# Altium integrated library Analog Devices RF IF Modulators and Demodulators.IntLib: 86 symbols (part 5 of 8)
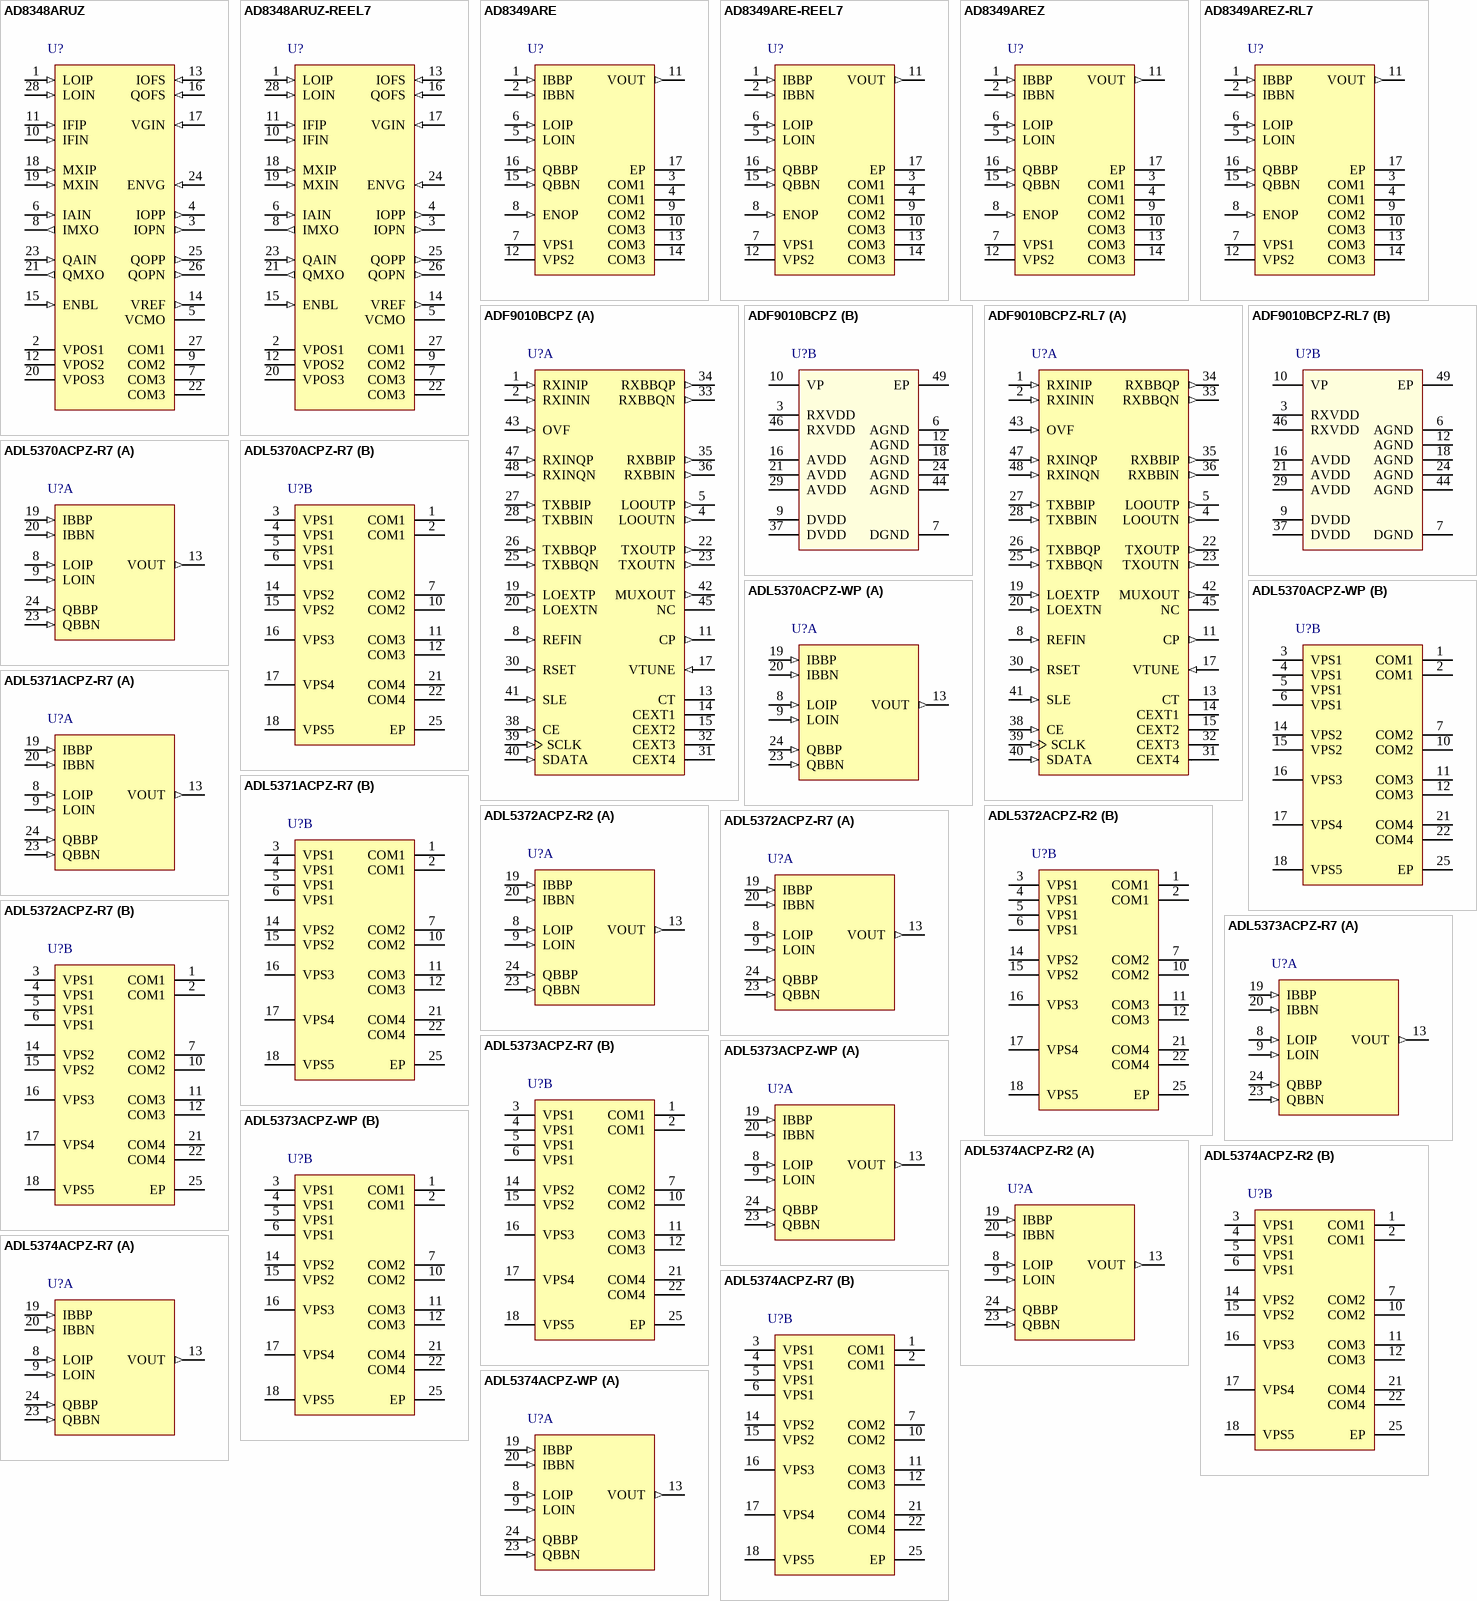
[diagram p9: symbols AD8348ARUZ to ADL5374ACPZ-WP]

## ADL5373ACPZ-R7
designator U?
2300 MHz to 3000 MHz Quadrature Modulator, CP-24-2, Pb-Free, 1500 Reel; Min RF Frequency (MHz): 2.3GHz; Max RF Frequency (MHz): 3GHz; IQ Freq (MHz): 500MHz; IIP3 (+dBm): 26dBm; Output P1dB (dBm): 13.8; DatasheetVersion: RevA; PackageVersion: Jan-2005; PackageReference: CP-24-2; PackageDescription: 24-Lead Lead Frame Chip Scale Package [LFCSP_VQ]; Code_JEDEC: MO-220-VGGD-2; ComponentLink1Description: Manufacturer URL; ComponentLink1URL: www.analog.com; ComponentLink2Description: Datasheet; ComponentLink2URL: http://www.analog.com/static/imported-files/data_sheets/ADL5373.pdf; ComponentLink3Description: Package Specification; ComponentLink3URL: http://www.analog.com/static/imported-files/packages/588305704543880784658541CP_24_2.pdf
footprint ADI-CP-24-2_N (QFN, 24-Leads, Body 4x4mm, Pitch 0.5mm, Thermal Pad 2.3x2.3mm, IPC Medium Density)
footprint ADI-CP-24-2_L (QFN, 24-Leads, Body 4x4mm, Pitch 0.5mm, Thermal Pad 2.3x2.3mm, IPC High Density)
footprint ADI-CP-24-2_M (QFN, 24-Leads, Body 4x4mm, Pitch 0.5mm, Thermal Pad 2.3x2.3mm, IPC Low Density)
part A pins: 8 LOIP (in) "50  ohm Differential Local Oscillator Input. Internally dc-biased. Pins must be ac-coupled. See Figure 8 for LO input impedance.", 9 LOIN (in) "50  ohm Differential Local Oscillator Input. Internally dc-biased. Pins must be ac-coupled. See Figure 8 for LO input impedance.", 13 VOUT (out) "Device Output. Single-ended RF output. Pin should be ac-coupled to the load. The output is ground referenced.", 19 IBBP (in) "Differential In-Phase and Quadrature Baseband Inputs. These high impedance inputs must be dc-biased to 500 mV dc and must be driven from a low impedance source.", 20 IBBN (in) "Differential In-Phase and Quadrature Baseband Inputs. These high impedance inputs must be dc-biased to 500 mV dc and must be driven from a low impedance source.", 23 QBBN (in) "Nominal characterized ac signal swing is 700 mV p-p on each pin. This results in a differential drive of 1.4 V p-p with a 500 mV dc bias. [see datasheet]", 24 QBBP (in) "Nominal characterized ac signal swing is 700 mV p-p on each pin. This results in a differential drive of 1.4 V p-p with a 500 mV dc bias. [see datasheet]"
part B pins: 1 COM1 (power) "Input Common Pins. Connect to ground plane via a low impedance path.", 2 COM1 (power) "Input Common Pins. Connect to ground plane via a low impedance path.", 3 VPS1 (power) "Positive Supply Voltage Pins. All pins should be connected to the same supply (VS). To ensure adequate external bypassing, connect 0.1 uF capacitors between each pin and ground. [see datasheet]", 4 VPS1 (power) "Positive Supply Voltage Pins. All pins should be connected to the same supply (VS). To ensure adequate external bypassing, connect 0.1 uF capacitors between each pin and ground. [see datasheet]", 5 VPS1 (power) "Positive Supply Voltage Pins. All pins should be connected to the same supply (VS). To ensure adequate external bypassing, connect 0.1 uF capacitors between each pin and ground. [see datasheet]", 6 VPS1 (power) "Positive Supply Voltage Pins. All pins should be connected to the same supply (VS). To ensure adequate external bypassing, connect 0.1 uF capacitors between each pin and ground. [see datasheet]", 7 COM2 (power) "Input Common Pins. Connect to ground plane via a low impedance path.", 10 COM2 (power) "Input Common Pins. Connect to ground plane via a low impedance path.", 11 COM3 (power) "Input Common Pins. Connect to ground plane via a low impedance path.", 12 COM3 (power) "Input Common Pins. Connect to ground plane via a low impedance path.", 14 VPS2 (power) "Positive Supply Voltage Pins. All pins should be connected to the same supply (VS). To ensure adequate external bypassing, connect 0.1 uF capacitors between each pin and ground. [see datasheet]", 15 VPS2 (power) "Positive Supply Voltage Pins. All pins should be connected to the same supply (VS). To ensure adequate external bypassing, connect 0.1 uF capacitors between each pin and ground. [see datasheet]", 16 VPS3 (power) "Positive Supply Voltage Pins. All pins should be connected to the same supply (VS). To ensure adequate external bypassing, connect 0.1 uF capacitors between each pin and ground. [see datasheet]", 17 VPS4 (power) "Positive Supply Voltage Pins. All pins should be connected to the same supply (VS). To ensure adequate external bypassing, connect 0.1 uF capacitors between each pin and ground. [see datasheet]", 18 VPS5 (power) "Positive Supply Voltage Pins. All pins should be connected to the same supply (VS). To ensure adequate external bypassing, connect 0.1 uF capacitors between each pin and ground. [see datasheet]", 21 COM4 (power) "Input Common Pins. Connect to ground plane via a low impedance path.", 22 COM4 (power) "Input Common Pins. Connect to ground plane via a low impedance path.", 25 EP (power) "Exposed Pad"

## ADL5373ACPZ-WP
designator U?
2300 MHz to 3000 MHz Quadrature Modulator, CP-24-2, Pb-Free, 64 Tray; Min RF Frequency (MHz): 2.3GHz; Max RF Frequency (MHz): 3GHz; IQ Freq (MHz): 500MHz; IIP3 (+dBm): 26dBm; Output P1dB (dBm): 13.8; DatasheetVersion: RevA; PackageVersion: Jan-2005; PackageReference: CP-24-2; PackageDescription: 24-Lead Lead Frame Chip Scale Package [LFCSP_VQ]; Code_JEDEC: MO-220-VGGD-2; ComponentLink1Description: Manufacturer URL; ComponentLink1URL: www.analog.com; ComponentLink2Description: Datasheet; ComponentLink2URL: http://www.analog.com/static/imported-files/data_sheets/ADL5373.pdf; ComponentLink3Description: Package Specification; ComponentLink3URL: http://www.analog.com/static/imported-files/packages/588305704543880784658541CP_24_2.pdf
footprint ADI-CP-24-2_N (QFN, 24-Leads, Body 4x4mm, Pitch 0.5mm, Thermal Pad 2.3x2.3mm, IPC Medium Density)
footprint ADI-CP-24-2_L (QFN, 24-Leads, Body 4x4mm, Pitch 0.5mm, Thermal Pad 2.3x2.3mm, IPC High Density)
footprint ADI-CP-24-2_M (QFN, 24-Leads, Body 4x4mm, Pitch 0.5mm, Thermal Pad 2.3x2.3mm, IPC Low Density)
part A pins: 8 LOIP (in) "50  ohm Differential Local Oscillator Input. Internally dc-biased. Pins must be ac-coupled. See Figure 8 for LO input impedance.", 9 LOIN (in) "50  ohm Differential Local Oscillator Input. Internally dc-biased. Pins must be ac-coupled. See Figure 8 for LO input impedance.", 13 VOUT (out) "Device Output. Single-ended RF output. Pin should be ac-coupled to the load. The output is ground referenced.", 19 IBBP (in) "Differential In-Phase and Quadrature Baseband Inputs. These high impedance inputs must be dc-biased to 500 mV dc and must be driven from a low impedance source.", 20 IBBN (in) "Differential In-Phase and Quadrature Baseband Inputs. These high impedance inputs must be dc-biased to 500 mV dc and must be driven from a low impedance source.", 23 QBBN (in) "Nominal characterized ac signal swing is 700 mV p-p on each pin. This results in a differential drive of 1.4 V p-p with a 500 mV dc bias. [see datasheet]", 24 QBBP (in) "Nominal characterized ac signal swing is 700 mV p-p on each pin. This results in a differential drive of 1.4 V p-p with a 500 mV dc bias. [see datasheet]"
part B pins: 1 COM1 (power) "Input Common Pins. Connect to ground plane via a low impedance path.", 2 COM1 (power) "Input Common Pins. Connect to ground plane via a low impedance path.", 3 VPS1 (power) "Positive Supply Voltage Pins. All pins should be connected to the same supply (VS). To ensure adequate external bypassing, connect 0.1 uF capacitors between each pin and ground. [see datasheet]", 4 VPS1 (power) "Positive Supply Voltage Pins. All pins should be connected to the same supply (VS). To ensure adequate external bypassing, connect 0.1 uF capacitors between each pin and ground. [see datasheet]", 5 VPS1 (power) "Positive Supply Voltage Pins. All pins should be connected to the same supply (VS). To ensure adequate external bypassing, connect 0.1 uF capacitors between each pin and ground. [see datasheet]", 6 VPS1 (power) "Positive Supply Voltage Pins. All pins should be connected to the same supply (VS). To ensure adequate external bypassing, connect 0.1 uF capacitors between each pin and ground. [see datasheet]", 7 COM2 (power) "Input Common Pins. Connect to ground plane via a low impedance path.", 10 COM2 (power) "Input Common Pins. Connect to ground plane via a low impedance path.", 11 COM3 (power) "Input Common Pins. Connect to ground plane via a low impedance path.", 12 COM3 (power) "Input Common Pins. Connect to ground plane via a low impedance path.", 14 VPS2 (power) "Positive Supply Voltage Pins. All pins should be connected to the same supply (VS). To ensure adequate external bypassing, connect 0.1 uF capacitors between each pin and ground. [see datasheet]", 15 VPS2 (power) "Positive Supply Voltage Pins. All pins should be connected to the same supply (VS). To ensure adequate external bypassing, connect 0.1 uF capacitors between each pin and ground. [see datasheet]", 16 VPS3 (power) "Positive Supply Voltage Pins. All pins should be connected to the same supply (VS). To ensure adequate external bypassing, connect 0.1 uF capacitors between each pin and ground. [see datasheet]", 17 VPS4 (power) "Positive Supply Voltage Pins. All pins should be connected to the same supply (VS). To ensure adequate external bypassing, connect 0.1 uF capacitors between each pin and ground. [see datasheet]", 18 VPS5 (power) "Positive Supply Voltage Pins. All pins should be connected to the same supply (VS). To ensure adequate external bypassing, connect 0.1 uF capacitors between each pin and ground. [see datasheet]", 21 COM4 (power) "Input Common Pins. Connect to ground plane via a low impedance path.", 22 COM4 (power) "Input Common Pins. Connect to ground plane via a low impedance path.", 25 EP (power) "Exposed Pad"

## ADL5374ACPZ-R2
designator U?
3000 MHz to 4000 MHz Quadrature Modulator, CP-24-2, Pb-Free, 250 Reel; Min RF Frequency (MHz): 2.3GHz; Max RF Frequency (MHz): 3GHz; IQ Freq (MHz): 500MHz; IIP3 (+dBm): 26dBm; Output P1dB (dBm): 13.8; DatasheetVersion: Rev0; PackageVersion: Jan-2005; PackageReference: CP-24-2; PackageDescription: 24-Lead Lead Frame Chip Scale Package [LFCSP_VQ]; Code_JEDEC: MO-220-VGGD-2; ComponentLink1Description: Manufacturer URL; ComponentLink1URL: www.analog.com; ComponentLink2Description: Datasheet; ComponentLink2URL: http://www.analog.com/static/imported-files/data_sheets/ADL5374.pdf; ComponentLink3Description: Package Specification; ComponentLink3URL: http://www.analog.com/static/imported-files/packages/588305704543880784658541CP_24_2.pdf
footprint ADI-CP-24-2_N (QFN, 24-Leads, Body 4x4mm, Pitch 0.5mm, Thermal Pad 2.3x2.3mm, IPC Medium Density)
footprint ADI-CP-24-2_L (QFN, 24-Leads, Body 4x4mm, Pitch 0.5mm, Thermal Pad 2.3x2.3mm, IPC High Density)
footprint ADI-CP-24-2_M (QFN, 24-Leads, Body 4x4mm, Pitch 0.5mm, Thermal Pad 2.3x2.3mm, IPC Low Density)
part A pins: 8 LOIP (in) "50  ohm Differential Local Oscillator Input. Internally dc-biased. Pins must be ac-coupled. See Figure 8 for LO input impedance.", 9 LOIN (in) "50  ohm Differential Local Oscillator Input. Internally dc-biased. Pins must be ac-coupled. See Figure 8 for LO input impedance.", 13 VOUT (out) "Device Output. Single-ended RF output. Pin should be ac-coupled to the load. The output is ground referenced.", 19 IBBP (in) "Differential In-Phase and Quadrature Baseband Inputs. These high impedance inputs must be dc-biased to 500 mV dc and must be driven from a low impedance source.", 20 IBBN (in) "Differential In-Phase and Quadrature Baseband Inputs. These high impedance inputs must be dc-biased to 500 mV dc and must be driven from a low impedance source.", 23 QBBN (in) "Nominal characterized ac signal swing is 700 mV p-p on each pin. This results in a differential drive of 1.4 V p-p with a 500 mV dc bias. [see datasheet]", 24 QBBP (in) "Nominal characterized ac signal swing is 700 mV p-p on each pin. This results in a differential drive of 1.4 V p-p with a 500 mV dc bias. [see datasheet]"
part B pins: 1 COM1 (power) "Input Common Pins. Connect to ground plane via a low impedance path.", 2 COM1 (power) "Input Common Pins. Connect to ground plane via a low impedance path.", 3 VPS1 (power) "Positive Supply Voltage Pins. All pins should be connected to the same supply (VS). To ensure adequate external bypassing, connect 0.1 uF capacitors between each pin and ground. [see datasheet]", 4 VPS1 (power) "Positive Supply Voltage Pins. All pins should be connected to the same supply (VS). To ensure adequate external bypassing, connect 0.1 uF capacitors between each pin and ground. [see datasheet]", 5 VPS1 (power) "Positive Supply Voltage Pins. All pins should be connected to the same supply (VS). To ensure adequate external bypassing, connect 0.1 uF capacitors between each pin and ground. [see datasheet]", 6 VPS1 (power) "Positive Supply Voltage Pins. All pins should be connected to the same supply (VS). To ensure adequate external bypassing, connect 0.1 uF capacitors between each pin and ground. [see datasheet]", 7 COM2 (power) "Input Common Pins. Connect to ground plane via a low impedance path.", 10 COM2 (power) "Input Common Pins. Connect to ground plane via a low impedance path.", 11 COM3 (power) "Input Common Pins. Connect to ground plane via a low impedance path.", 12 COM3 (power) "Input Common Pins. Connect to ground plane via a low impedance path.", 14 VPS2 (power) "Positive Supply Voltage Pins. All pins should be connected to the same supply (VS). To ensure adequate external bypassing, connect 0.1 uF capacitors between each pin and ground. [see datasheet]", 15 VPS2 (power) "Positive Supply Voltage Pins. All pins should be connected to the same supply (VS). To ensure adequate external bypassing, connect 0.1 uF capacitors between each pin and ground. [see datasheet]", 16 VPS3 (power) "Positive Supply Voltage Pins. All pins should be connected to the same supply (VS). To ensure adequate external bypassing, connect 0.1 uF capacitors between each pin and ground. [see datasheet]", 17 VPS4 (power) "Positive Supply Voltage Pins. All pins should be connected to the same supply (VS). To ensure adequate external bypassing, connect 0.1 uF capacitors between each pin and ground. [see datasheet]", 18 VPS5 (power) "Positive Supply Voltage Pins. All pins should be connected to the same supply (VS). To ensure adequate external bypassing, connect 0.1 uF capacitors between each pin and ground. [see datasheet]", 21 COM4 (power) "Input Common Pins. Connect to ground plane via a low impedance path.", 22 COM4 (power) "Input Common Pins. Connect to ground plane via a low impedance path.", 25 EP (power) "Exposed Pad"

## ADL5374ACPZ-R7
designator U?
3000 MHz to 4000 MHz Quadrature Modulator, CP-24-2, Pb-Free, 1500 Reel; Min RF Frequency (MHz): 3GHz; Max RF Frequency (MHz): 4GHz; IQ Freq (MHz): 500MHz; IIP3 (+dBm): 22.8dBm; Output P1dB (dBm): 12; DatasheetVersion: Rev0; PackageVersion: Jan-2005; PackageReference: CP-24-2; PackageDescription: 24-Lead Lead Frame Chip Scale Package [LFCSP_VQ]; Code_JEDEC: MO-220-VGGD-2; ComponentLink1Description: Manufacturer URL; ComponentLink1URL: www.analog.com; ComponentLink2Description: Datasheet; ComponentLink2URL: http://www.analog.com/static/imported-files/data_sheets/ADL5374.pdf; ComponentLink3Description: Package Specification; ComponentLink3URL: http://www.analog.com/static/imported-files/packages/588305704543880784658541CP_24_2.pdf
footprint ADI-CP-24-2_N (QFN, 24-Leads, Body 4x4mm, Pitch 0.5mm, Thermal Pad 2.3x2.3mm, IPC Medium Density)
footprint ADI-CP-24-2_L (QFN, 24-Leads, Body 4x4mm, Pitch 0.5mm, Thermal Pad 2.3x2.3mm, IPC High Density)
footprint ADI-CP-24-2_M (QFN, 24-Leads, Body 4x4mm, Pitch 0.5mm, Thermal Pad 2.3x2.3mm, IPC Low Density)
part A pins: 8 LOIP (in) "50  ohm Differential Local Oscillator Input. Internally dc-biased. Pins must be ac-coupled. See Figure 8 for LO input impedance.", 9 LOIN (in) "50  ohm Differential Local Oscillator Input. Internally dc-biased. Pins must be ac-coupled. See Figure 8 for LO input impedance.", 13 VOUT (out) "Device Output. Single-ended RF output. Pin should be ac-coupled to the load. The output is ground referenced.", 19 IBBP (in) "Differential In-Phase and Quadrature Baseband Inputs. These high impedance inputs must be dc-biased to 500 mV dc and must be driven from a low impedance source. [see datasheet]", 20 IBBN (in) "Differential In-Phase and Quadrature Baseband Inputs. These high impedance inputs must be dc-biased to 500 mV dc and must be driven from a low impedance source. [see datasheet]", 23 QBBN (in) "Differential In-Phase and Quadrature Baseband Inputs. These high impedance inputs must be dc-biased to 500 mV dc and must be driven from a low impedance source. [see datasheet]", 24 QBBP (in) "Differential In-Phase and Quadrature Baseband Inputs. These high impedance inputs must be dc-biased to 500 mV dc and must be driven from a low impedance source. [see datasheet]"
part B pins: 1 COM1 (power) "Input Common Pins. Connect to ground plane via a low impedance path.", 2 COM1 (power) "Input Common Pins. Connect to ground plane via a low impedance path.", 3 VPS1 (power) "Positive Supply Voltage Pins. All pins should be connected to the same supply (VS). To ensure adequate external bypassing, connect 0.1 uF capacitors between each pin and ground. [see datasheet]", 4 VPS1 (power) "Positive Supply Voltage Pins. All pins should be connected to the same supply (VS). To ensure adequate external bypassing, connect 0.1 uF capacitors between each pin and ground. [see datasheet]", 5 VPS1 (power) "Positive Supply Voltage Pins. All pins should be connected to the same supply (VS). To ensure adequate external bypassing, connect 0.1 uF capacitors between each pin and ground. [see datasheet]", 6 VPS1 (power) "Positive Supply Voltage Pins. All pins should be connected to the same supply (VS). To ensure adequate external bypassing, connect 0.1 uF capacitors between each pin and ground. [see datasheet]", 7 COM2 (power) "Input Common Pins. Connect to ground plane via a low impedance path.", 10 COM2 (power) "Input Common Pins. Connect to ground plane via a low impedance path.", 11 COM3 (power) "Input Common Pins. Connect to ground plane via a low impedance path.", 12 COM3 (power) "Input Common Pins. Connect to ground plane via a low impedance path.", 14 VPS2 (power) "Positive Supply Voltage Pins. All pins should be connected to the same supply (VS). To ensure adequate external bypassing, connect 0.1 uF capacitors between each pin and ground. [see datasheet]", 15 VPS2 (power) "Positive Supply Voltage Pins. All pins should be connected to the same supply (VS). To ensure adequate external bypassing, connect 0.1 uF capacitors between each pin and ground. [see datasheet]", 16 VPS3 (power) "Positive Supply Voltage Pins. All pins should be connected to the same supply (VS). To ensure adequate external bypassing, connect 0.1 uF capacitors between each pin and ground. [see datasheet]", 17 VPS4 (power) "Positive Supply Voltage Pins. All pins should be connected to the same supply (VS). To ensure adequate external bypassing, connect 0.1 uF capacitors between each pin and ground. [see datasheet]", 18 VPS5 (power) "Positive Supply Voltage Pins. All pins should be connected to the same supply (VS). To ensure adequate external bypassing, connect 0.1 uF capacitors between each pin and ground. [see datasheet]", 21 COM4 (power) "Input Common Pins. Connect to ground plane via a low impedance path.", 22 COM4 (power) "Input Common Pins. Connect to ground plane via a low impedance path.", 25 EP (power) "Connect to ground plane via a low impedance path."

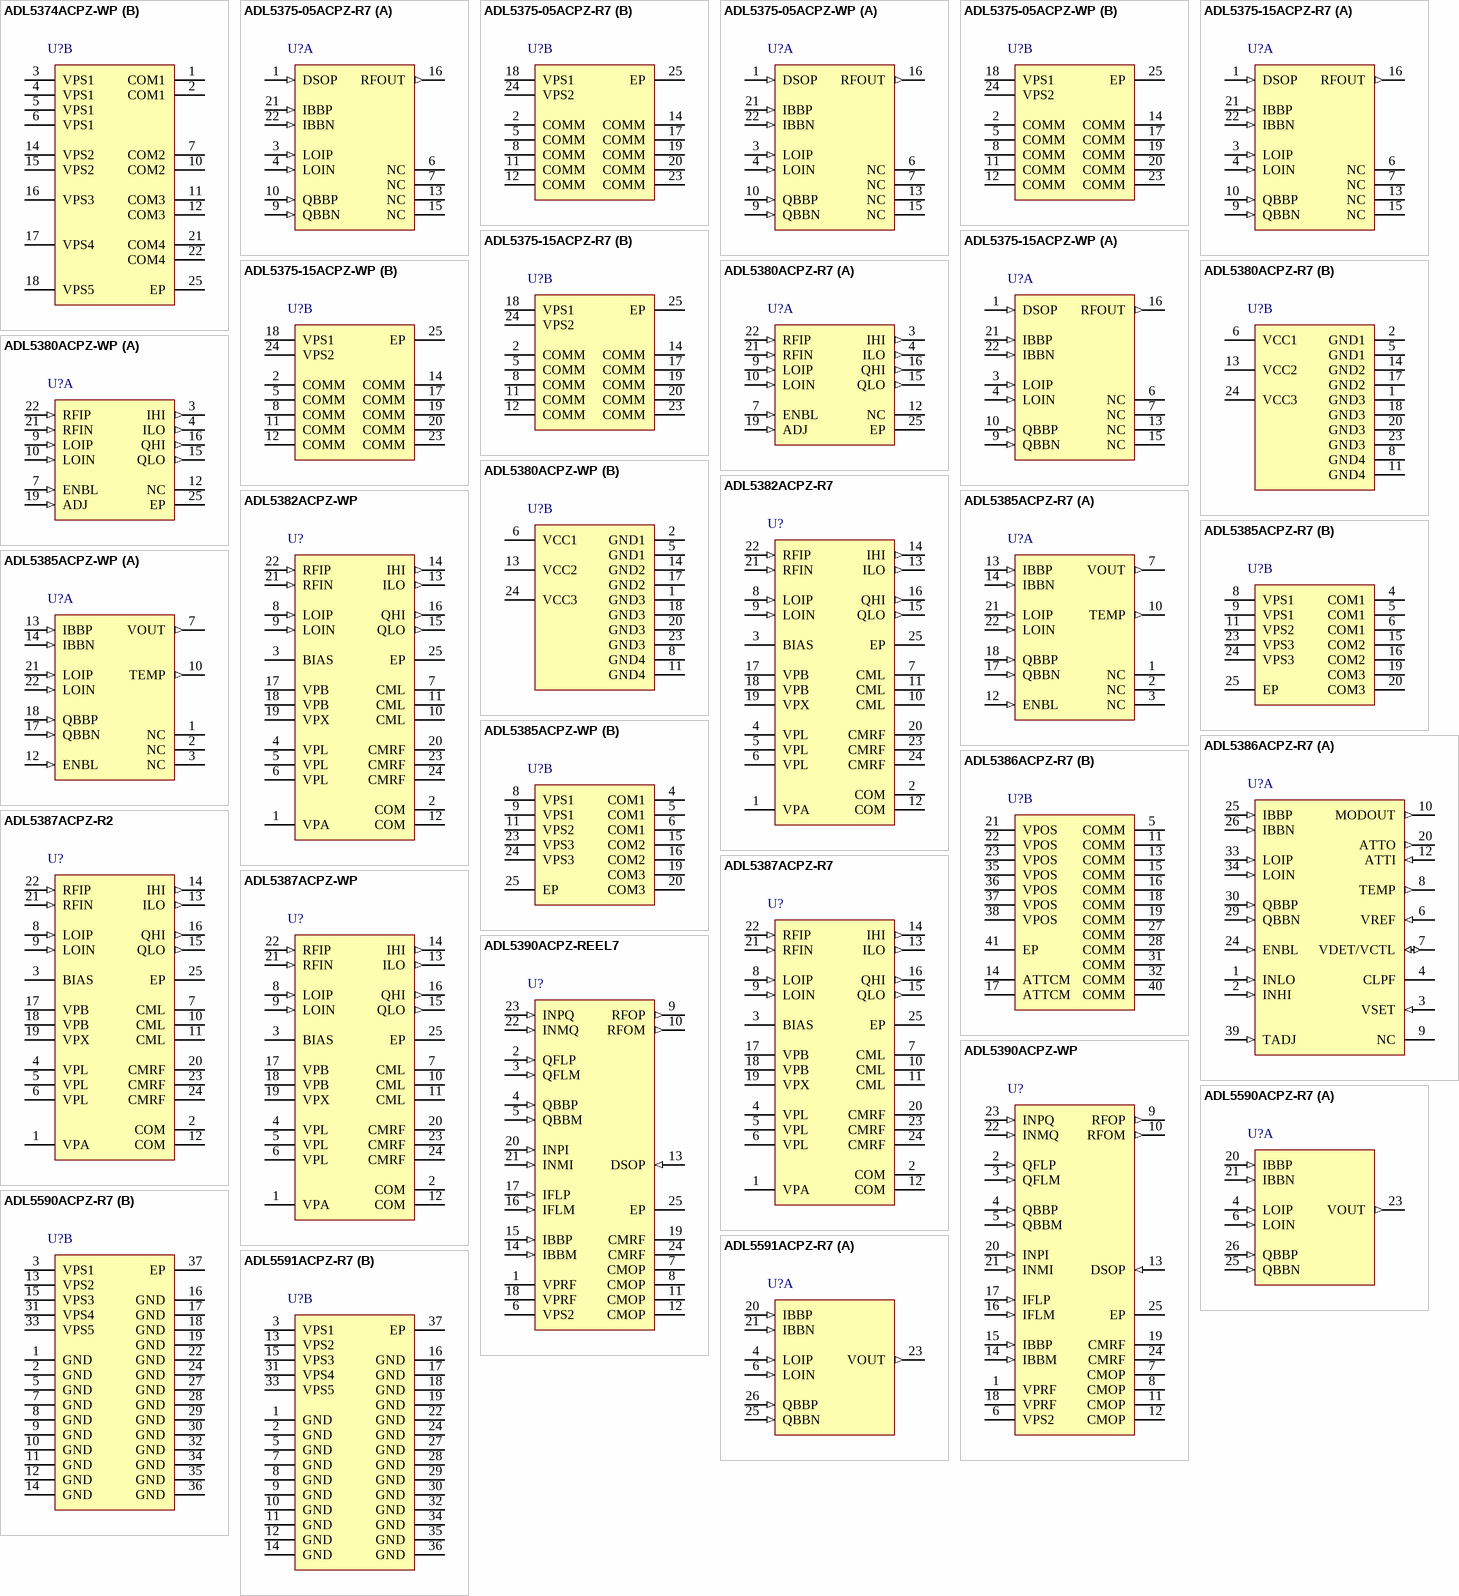
[diagram p3: symbols ADL5374ACPZ-WP to ADL5591ACPZ-R7]

## ADL5374ACPZ-WP
designator U?
3000 MHz to 4000 MHz Quadrature Modulator, CP-24-2, Pb-Free, 64 Tray; Min RF Frequency (MHz): 3GHz; Max RF Frequency (MHz): 4GHz; IQ Freq (MHz): 500MHz; IIP3 (+dBm): 22.8dBm; Output P1dB (dBm): 12; DatasheetVersion: Rev0; PackageVersion: Jan-2005; PackageReference: CP-24-2; PackageDescription: 24-Lead Lead Frame Chip Scale Package [LFCSP_VQ]; Code_JEDEC: MO-220-VGGD-2; ComponentLink1Description: Manufacturer URL; ComponentLink1URL: www.analog.com; ComponentLink2Description: Datasheet; ComponentLink2URL: http://www.analog.com/static/imported-files/data_sheets/ADL5374.pdf; ComponentLink3Description: Package Specification; ComponentLink3URL: http://www.analog.com/static/imported-files/packages/588305704543880784658541CP_24_2.pdf
footprint ADI-CP-24-2_N (QFN, 24-Leads, Body 4x4mm, Pitch 0.5mm, Thermal Pad 2.3x2.3mm, IPC Medium Density)
footprint ADI-CP-24-2_L (QFN, 24-Leads, Body 4x4mm, Pitch 0.5mm, Thermal Pad 2.3x2.3mm, IPC High Density)
footprint ADI-CP-24-2_M (QFN, 24-Leads, Body 4x4mm, Pitch 0.5mm, Thermal Pad 2.3x2.3mm, IPC Low Density)
part A pins: 8 LOIP (in) "50  ohm Differential Local Oscillator Input. Internally dc-biased. Pins must be ac-coupled. See Figure 8 for LO input impedance.", 9 LOIN (in) "50  ohm Differential Local Oscillator Input. Internally dc-biased. Pins must be ac-coupled. See Figure 8 for LO input impedance.", 13 VOUT (out) "Device Output. Single-ended RF output. Pin should be ac-coupled to the load. The output is ground referenced.", 19 IBBP (in) "Differential In-Phase and Quadrature Baseband Inputs. These high impedance inputs must be dc-biased to 500 mV dc and must be driven from a low impedance source. [see datasheet]", 20 IBBN (in) "Differential In-Phase and Quadrature Baseband Inputs. These high impedance inputs must be dc-biased to 500 mV dc and must be driven from a low impedance source. [see datasheet]", 23 QBBN (in) "Differential In-Phase and Quadrature Baseband Inputs. These high impedance inputs must be dc-biased to 500 mV dc and must be driven from a low impedance source. [see datasheet]", 24 QBBP (in) "Differential In-Phase and Quadrature Baseband Inputs. These high impedance inputs must be dc-biased to 500 mV dc and must be driven from a low impedance source. [see datasheet]"
part B pins: 1 COM1 (power) "Input Common Pins. Connect to ground plane via a low impedance path.", 2 COM1 (power) "Input Common Pins. Connect to ground plane via a low impedance path.", 3 VPS1 (power) "Positive Supply Voltage Pins. All pins should be connected to the same supply (VS). To ensure adequate external bypassing, connect 0.1 uF capacitors between each pin and ground. [see datasheet]", 4 VPS1 (power) "Positive Supply Voltage Pins. All pins should be connected to the same supply (VS). To ensure adequate external bypassing, connect 0.1 uF capacitors between each pin and ground. [see datasheet]", 5 VPS1 (power) "Positive Supply Voltage Pins. All pins should be connected to the same supply (VS). To ensure adequate external bypassing, connect 0.1 uF capacitors between each pin and ground. [see datasheet]", 6 VPS1 (power) "Positive Supply Voltage Pins. All pins should be connected to the same supply (VS). To ensure adequate external bypassing, connect 0.1 uF capacitors between each pin and ground. [see datasheet]", 7 COM2 (power) "Input Common Pins. Connect to ground plane via a low impedance path.", 10 COM2 (power) "Input Common Pins. Connect to ground plane via a low impedance path.", 11 COM3 (power) "Input Common Pins. Connect to ground plane via a low impedance path.", 12 COM3 (power) "Input Common Pins. Connect to ground plane via a low impedance path.", 14 VPS2 (power) "Positive Supply Voltage Pins. All pins should be connected to the same supply (VS). To ensure adequate external bypassing, connect 0.1 uF capacitors between each pin and ground. [see datasheet]", 15 VPS2 (power) "Positive Supply Voltage Pins. All pins should be connected to the same supply (VS). To ensure adequate external bypassing, connect 0.1 uF capacitors between each pin and ground. [see datasheet]", 16 VPS3 (power) "Positive Supply Voltage Pins. All pins should be connected to the same supply (VS). To ensure adequate external bypassing, connect 0.1 uF capacitors between each pin and ground. [see datasheet]", 17 VPS4 (power) "Positive Supply Voltage Pins. All pins should be connected to the same supply (VS). To ensure adequate external bypassing, connect 0.1 uF capacitors between each pin and ground. [see datasheet]", 18 VPS5 (power) "Positive Supply Voltage Pins. All pins should be connected to the same supply (VS). To ensure adequate external bypassing, connect 0.1 uF capacitors between each pin and ground. [see datasheet]", 21 COM4 (power) "Input Common Pins. Connect to ground plane via a low impedance path.", 22 COM4 (power) "Input Common Pins. Connect to ground plane via a low impedance path.", 25 EP (power) "Connect to ground plane via a low impedance path."

## ADL5375-05ACPZ-R7
designator U?
400 MHz to 6 GHz Broadband Quadrature Modulator, CP-24-3, Pb-Free, 1500 Reel; Min RF Frequency (MHz): 400MHz; Max RF Frequency (MHz): 6GHz; IQ Freq (MHz): 750MHz; IIP3 (+dBm): 26.8dBm; Output P1dB (dBm): 9.4; DatasheetVersion: RevB; PackageVersion: Jan-2005; PackageReference: CP-24-3; PackageDescription: 24-Lead Lead Frame Chip Scale Package [LFCSP_VQ]; Code_JEDEC: MO-220-VGGD-8; ComponentLink1Description: Manufacturer URL; ComponentLink1URL: www.analog.com; ComponentLink2Description: Datasheet; ComponentLink2URL: http://www.analog.com/static/imported-files/data_sheets/ADL5375.pdf; ComponentLink3Description: Package Specification; ComponentLink3URL: http://www.analog.com/static/imported-files/packages/56702234806764CP_24_3.pdf
footprint ADI-CP-24-3_N (QFN, 24-Leads, Body 4x4mm, Pitch 0.5mm, Thermal Pad 2.5x2.5mm, IPC Medium Density)
footprint ADI-CP-24-3_L (QFN, 24-Leads, Body 4x4mm, Pitch 0.5mm, Thermal Pad 2.5x2.5mm, IPC High Density)
footprint ADI-CP-24-3_M (QFN, 24-Leads, Body 4x4mm, Pitch 0.5mm, Thermal Pad 2.5x2.5mm, IPC Low Density)
part A pins: 1 DSOP (in) "Output Disable. A logic high on this pin disables the RF output. Connect this pin to ground or leave it floating to enable the output.", 3 LOIP (in) "Local Oscillator Inputs. Single-ended operation: The LOIP pin is driven from the LO source through an ac-coupling capacitor while the LOIN pin is ac-coupled to ground through a capacitor. [see datasheet]", 4 LOIN (in) "Local Oscillator Inputs. Single-ended operation: The LOIP pin is driven from the LO source through an ac-coupling capacitor while the LOIN pin is ac-coupled to ground through a capacitor. [see datasheet]", 6 NC "No Connect. These pins can be left open or tied to ground.", 7 NC "No Connect. These pins can be left open or tied to ground.", 9 QBBN (in) "Differential In-Phase and Quadrature Baseband Inputs. These high impedance inputs should be dcbiased to the recommended level depending on the version. [see datasheet]", 10 QBBP (in) "Differential In-Phase and Quadrature Baseband Inputs. These high impedance inputs should be dcbiased to the recommended level depending on the version. [see datasheet]", 13 NC "No Connect. These pins can be left open or tied to ground.", 15 NC "No Connect. These pins can be left open or tied to ground.", 16 RFOUT (out) "RF Output. Single-ended, 50  ohm internally biased RF output. RFOUT must be ac-coupled to the load.", 21 IBBP (in) "Differential In-Phase and Quadrature Baseband Inputs. These high impedance inputs should be dcbiased to the recommended level depending on the version. [see datasheet]", 22 IBBN (in) "Differential In-Phase and Quadrature Baseband Inputs. These high impedance inputs should be dcbiased to the recommended level depending on the version. [see datasheet]"
part B pins: 2 COMM (power) "Input Common Pins. Connect to the ground plane via a low impedance path.", 5 COMM (power) "Input Common Pins. Connect to the ground plane via a low impedance path.", 8 COMM (power) "Input Common Pins. Connect to the ground plane via a low impedance path.", 11 COMM (power) "Input Common Pins. Connect to the ground plane via a low impedance path.", 12 COMM (power) "Input Common Pins. Connect to the ground plane via a low impedance path.", 14 COMM (power) "Input Common Pins. Connect to the ground plane via a low impedance path.", 17 COMM (power) "Input Common Pins. Connect to the ground plane via a low impedance path.", 18 VPS1 (power) "Positive Supply Voltage Pins. All pins should be connected to the same supply (VS). To ensure adequate external bypassing, connect 0.1 uF and 100 pF capacitors between each pin and ground.", 19 COMM (power) "Input Common Pins. Connect to the ground plane via a low impedance path", 20 COMM (power) "Input Common Pins. Connect to the ground plane via a low impedance path.", 23 COMM (power) "Input Common Pins. Connect to the ground plane via a low impedance path.", 24 VPS2 (power) "Positive Supply Voltage Pins. All pins should be connected to the same supply (VS). To ensure adequate external bypassing, connect 0.1 uF and 100 pF capacitors between each pin and ground.", 25 EP (power) "Exposed Paddle. Connect to the ground plane via a low impedance path."

## ADL5375-05ACPZ-WP
designator U?
400 MHz to 6 GHz Broadband Quadrature Modulator, CP-24-3, Pb-Free, 64 Tray; Min RF Frequency (MHz): 400MHz; Max RF Frequency (MHz): 6GHz; IQ Freq (MHz): 750MHz; IIP3 (+dBm): 26.8dBm; Output P1dB (dBm): 9.4; DatasheetVersion: RevB; PackageVersion: Jan-2005; PackageReference: CP-24-3; PackageDescription: 24-Lead Lead Frame Chip Scale Package [LFCSP_VQ]; Code_JEDEC: MO-220-VGGD-8; ComponentLink1Description: Manufacturer URL; ComponentLink1URL: www.analog.com; ComponentLink2Description: Datasheet; ComponentLink2URL: http://www.analog.com/static/imported-files/data_sheets/ADL5375.pdf; ComponentLink3Description: Package Specification; ComponentLink3URL: http://www.analog.com/static/imported-files/packages/56702234806764CP_24_3.pdf
footprint ADI-CP-24-3_N (QFN, 24-Leads, Body 4x4mm, Pitch 0.5mm, Thermal Pad 2.5x2.5mm, IPC Medium Density)
footprint ADI-CP-24-3_L (QFN, 24-Leads, Body 4x4mm, Pitch 0.5mm, Thermal Pad 2.5x2.5mm, IPC High Density)
footprint ADI-CP-24-3_M (QFN, 24-Leads, Body 4x4mm, Pitch 0.5mm, Thermal Pad 2.5x2.5mm, IPC Low Density)
part A pins: 1 DSOP (in) "Output Disable. A logic high on this pin disables the RF output. Connect this pin to ground or leave it floating to enable the output.", 3 LOIP (in) "Local Oscillator Inputs. Single-ended operation: The LOIP pin is driven from the LO source through an ac-coupling capacitor while the LOIN pin is ac-coupled to ground through a capacitor. [see datasheet]", 4 LOIN (in) "Local Oscillator Inputs. Single-ended operation: The LOIP pin is driven from the LO source through an ac-coupling capacitor while the LOIN pin is ac-coupled to ground through a capacitor. [see datasheet]", 6 NC "No Connect. These pins can be left open or tied to ground.", 7 NC "No Connect. These pins can be left open or tied to ground.", 9 QBBN (in) "Differential In-Phase and Quadrature Baseband Inputs. These high impedance inputs should be dcbiased to the recommended level depending on the version. [see datasheet]", 10 QBBP (in) "Differential In-Phase and Quadrature Baseband Inputs. These high impedance inputs should be dcbiased to the recommended level depending on the version. [see datasheet]", 13 NC "No Connect. These pins can be left open or tied to ground.", 15 NC "No Connect. These pins can be left open or tied to ground.", 16 RFOUT (out) "RF Output. Single-ended, 50  ohm internally biased RF output. RFOUT must be ac-coupled to the load.", 21 IBBP (in) "Differential In-Phase and Quadrature Baseband Inputs. These high impedance inputs should be dcbiased to the recommended level depending on the version. [see datasheet]", 22 IBBN (in) "Differential In-Phase and Quadrature Baseband Inputs. These high impedance inputs should be dcbiased to the recommended level depending on the version. [see datasheet]"
part B pins: 2 COMM (power) "Input Common Pins. Connect to the ground plane via a low impedance path.", 5 COMM (power) "Input Common Pins. Connect to the ground plane via a low impedance path.", 8 COMM (power) "Input Common Pins. Connect to the ground plane via a low impedance path.", 11 COMM (power) "Input Common Pins. Connect to the ground plane via a low impedance path.", 12 COMM (power) "Input Common Pins. Connect to the ground plane via a low impedance path.", 14 COMM (power) "Input Common Pins. Connect to the ground plane via a low impedance path.", 17 COMM (power) "Input Common Pins. Connect to the ground plane via a low impedance path.", 18 VPS1 (power) "Positive Supply Voltage Pins. All pins should be connected to the same supply (VS). To ensure adequate external bypassing, connect 0.1 uF and 100 pF capacitors between each pin and ground.", 19 COMM (power) "Input Common Pins. Connect to the ground plane via a low impedance path", 20 COMM (power) "Input Common Pins. Connect to the ground plane via a low impedance path.", 23 COMM (power) "Input Common Pins. Connect to the ground plane via a low impedance path.", 24 VPS2 (power) "Positive Supply Voltage Pins. All pins should be connected to the same supply (VS). To ensure adequate external bypassing, connect 0.1 uF and 100 pF capacitors between each pin and ground.", 25 EP (power) "Exposed Paddle. Connect to the ground plane via a low impedance path."

## ADL5375-15ACPZ-R7
designator U?
400 MHz to 6 GHz Broadband Quadrature Modulator, CP-24-3, Pb-Free, 1500 Reel; Min RF Frequency (MHz): 400MHz; Max RF Frequency (MHz): 6GHz; IQ Freq (MHz): 750MHz; IIP3 (+dBm): 26.8dBm; Output P1dB (dBm): 9.4; DatasheetVersion: RevB; PackageVersion: Jan-2005; PackageReference: CP-24-3; PackageDescription: 24-Lead Lead Frame Chip Scale Package [LFCSP_VQ]; Code_JEDEC: MO-220-VGGD-8; ComponentLink1Description: Manufacturer URL; ComponentLink1URL: www.analog.com; ComponentLink2Description: Datasheet; ComponentLink2URL: http://www.analog.com/static/imported-files/data_sheets/ADL5375.pdf; ComponentLink3Description: Package Specification; ComponentLink3URL: http://www.analog.com/static/imported-files/packages/56702234806764CP_24_3.pdf
footprint ADI-CP-24-3_N (QFN, 24-Leads, Body 4x4mm, Pitch 0.5mm, Thermal Pad 2.5x2.5mm, IPC Medium Density)
footprint ADI-CP-24-3_L (QFN, 24-Leads, Body 4x4mm, Pitch 0.5mm, Thermal Pad 2.5x2.5mm, IPC High Density)
footprint ADI-CP-24-3_M (QFN, 24-Leads, Body 4x4mm, Pitch 0.5mm, Thermal Pad 2.5x2.5mm, IPC Low Density)
part A pins: 1 DSOP (in) "Output Disable. A logic high on this pin disables the RF output. Connect this pin to ground or leave it floating to enable the output.", 3 LOIP (in) "Local Oscillator Inputs. Single-ended operation: The LOIP pin is driven from the LO source through an ac-coupling capacitor while the LOIN pin is ac-coupled to ground through a capacitor. [see datasheet]", 4 LOIN (in) "Local Oscillator Inputs. Single-ended operation: The LOIP pin is driven from the LO source through an ac-coupling capacitor while the LOIN pin is ac-coupled to ground through a capacitor. [see datasheet]", 6 NC "No Connect. These pins can be left open or tied to ground.", 7 NC "No Connect. These pins can be left open or tied to ground.", 9 QBBN (in) "Differential In-Phase and Quadrature Baseband Inputs. These high impedance inputs should be dcbiased to the recommended level depending on the version. [see datasheet]", 10 QBBP (in) "Differential In-Phase and Quadrature Baseband Inputs. These high impedance inputs should be dcbiased to the recommended level depending on the version. [see datasheet]", 13 NC "No Connect. These pins can be left open or tied to ground.", 15 NC "No Connect. These pins can be left open or tied to ground.", 16 RFOUT (out) "RF Output. Single-ended, 50  ohm internally biased RF output. RFOUT must be ac-coupled to the load.", 21 IBBP (in) "Differential In-Phase and Quadrature Baseband Inputs. These high impedance inputs should be dcbiased to the recommended level depending on the version. [see datasheet]", 22 IBBN (in) "Differential In-Phase and Quadrature Baseband Inputs. These high impedance inputs should be dcbiased to the recommended level depending on the version. [see datasheet]"
part B pins: 2 COMM (power) "Input Common Pins. Connect to the ground plane via a low impedance path.", 5 COMM (power) "Input Common Pins. Connect to the ground plane via a low impedance path.", 8 COMM (power) "Input Common Pins. Connect to the ground plane via a low impedance path.", 11 COMM (power) "Input Common Pins. Connect to the ground plane via a low impedance path.", 12 COMM (power) "Input Common Pins. Connect to the ground plane via a low impedance path.", 14 COMM (power) "Input Common Pins. Connect to the ground plane via a low impedance path.", 17 COMM (power) "Input Common Pins. Connect to the ground plane via a low impedance path.", 18 VPS1 (power) "Positive Supply Voltage Pins. All pins should be connected to the same supply (VS). To ensure adequate external bypassing, connect 0.1 uF and 100 pF capacitors between each pin and ground.", 19 COMM (power) "Input Common Pins. Connect to the ground plane via a low impedance path", 20 COMM (power) "Input Common Pins. Connect to the ground plane via a low impedance path.", 23 COMM (power) "Input Common Pins. Connect to the ground plane via a low impedance path.", 24 VPS2 (power) "Positive Supply Voltage Pins. All pins should be connected to the same supply (VS). To ensure adequate external bypassing, connect 0.1 uF and 100 pF capacitors between each pin and ground.", 25 EP (power) "Exposed Paddle. Connect to the ground plane via a low impedance path."

## ADL5375-15ACPZ-WP
designator U?
400 MHz to 6 GHz Broadband Quadrature Modulator, CP-24-3, Pb-Free, 64 Tray; Min RF Frequency (MHz): 400MHz; Max RF Frequency (MHz): 6GHz; IQ Freq (MHz): 750MHz; IIP3 (+dBm): 26.8dBm; Output P1dB (dBm): 9.4; DatasheetVersion: RevB; PackageVersion: Jan-2005; PackageReference: CP-24-3; PackageDescription: 24-Lead Lead Frame Chip Scale Package [LFCSP_VQ]; Code_JEDEC: MO-220-VGGD-8; ComponentLink1Description: Manufacturer URL; ComponentLink1URL: www.analog.com; ComponentLink2Description: Datasheet; ComponentLink2URL: http://www.analog.com/static/imported-files/data_sheets/ADL5375.pdf; ComponentLink3Description: Package Specification; ComponentLink3URL: http://www.analog.com/static/imported-files/packages/56702234806764CP_24_3.pdf
footprint ADI-CP-24-3_N (QFN, 24-Leads, Body 4x4mm, Pitch 0.5mm, Thermal Pad 2.5x2.5mm, IPC Medium Density)
footprint ADI-CP-24-3_L (QFN, 24-Leads, Body 4x4mm, Pitch 0.5mm, Thermal Pad 2.5x2.5mm, IPC High Density)
footprint ADI-CP-24-3_M (QFN, 24-Leads, Body 4x4mm, Pitch 0.5mm, Thermal Pad 2.5x2.5mm, IPC Low Density)
part A pins: 1 DSOP (in) "Output Disable. A logic high on this pin disables the RF output. Connect this pin to ground or leave it floating to enable the output.", 3 LOIP (in) "Local Oscillator Inputs. Single-ended operation: The LOIP pin is driven from the LO source through an ac-coupling capacitor while the LOIN pin is ac-coupled to ground through a capacitor. [see datasheet]", 4 LOIN (in) "Local Oscillator Inputs. Single-ended operation: The LOIP pin is driven from the LO source through an ac-coupling capacitor while the LOIN pin is ac-coupled to ground through a capacitor. [see datasheet]", 6 NC "No Connect. These pins can be left open or tied to ground.", 7 NC "No Connect. These pins can be left open or tied to ground.", 9 QBBN (in) "Differential In-Phase and Quadrature Baseband Inputs. These high impedance inputs should be dcbiased to the recommended level depending on the version. [see datasheet]", 10 QBBP (in) "Differential In-Phase and Quadrature Baseband Inputs. These high impedance inputs should be dcbiased to the recommended level depending on the version. [see datasheet]", 13 NC "No Connect. These pins can be left open or tied to ground.", 15 NC "No Connect. These pins can be left open or tied to ground.", 16 RFOUT (out) "RF Output. Single-ended, 50  ohm internally biased RF output. RFOUT must be ac-coupled to the load.", 21 IBBP (in) "Differential In-Phase and Quadrature Baseband Inputs. These high impedance inputs should be dcbiased to the recommended level depending on the version. [see datasheet]", 22 IBBN (in) "Differential In-Phase and Quadrature Baseband Inputs. These high impedance inputs should be dcbiased to the recommended level depending on the version. [see datasheet]"
part B pins: 2 COMM (power) "Input Common Pins. Connect to the ground plane via a low impedance path.", 5 COMM (power) "Input Common Pins. Connect to the ground plane via a low impedance path.", 8 COMM (power) "Input Common Pins. Connect to the ground plane via a low impedance path.", 11 COMM (power) "Input Common Pins. Connect to the ground plane via a low impedance path.", 12 COMM (power) "Input Common Pins. Connect to the ground plane via a low impedance path.", 14 COMM (power) "Input Common Pins. Connect to the ground plane via a low impedance path.", 17 COMM (power) "Input Common Pins. Connect to the ground plane via a low impedance path.", 18 VPS1 (power) "Positive Supply Voltage Pins. All pins should be connected to the same supply (VS). To ensure adequate external bypassing, connect 0.1 uF and 100 pF capacitors between each pin and ground.", 19 COMM (power) "Input Common Pins. Connect to the ground plane via a low impedance path", 20 COMM (power) "Input Common Pins. Connect to the ground plane via a low impedance path.", 23 COMM (power) "Input Common Pins. Connect to the ground plane via a low impedance path.", 24 VPS2 (power) "Positive Supply Voltage Pins. All pins should be connected to the same supply (VS). To ensure adequate external bypassing, connect 0.1 uF and 100 pF capacitors between each pin and ground.", 25 EP (power) "Exposed Paddle. Connect to the ground plane via a low impedance path."

## ADL5380ACPZ-R7
designator U?
400 MHz to 6 GHz Quadrature Demodulator, CP-24-3, Pb-Free, 1500 Reel; Min RF Frequency (MHz): 400MHz; Max RF Frequency (MHz): 6GHz; IQ Freq (MHz): 390MHz; Phase Error (deg): 0.2Deg; Amplitude Error (dB): 70mdB; IIP3 (+dBm): 22dBm; Output P1dB (dBm): 12; DatasheetVersion: Rev. 0; PackageVersion: Jan-2005; PackageReference: CP-24-3; PackageDescription: 24-Lead Lead Frame Chip Scale Package [LFCSP_VQ]; Code_JEDEC: MO-220-VGGD-8; ComponentLink1Description: Manufacturer URL; ComponentLink1URL: www.analog.com; ComponentLink2Description: Datasheet; ComponentLink2URL: http://www.analog.com/static/imported-files/data_sheets/ADL5380.pdf; ComponentLink3Description: Package Specification; ComponentLink3URL: http://www.analog.com/static/imported-files/packages/56702234806764CP_24_3.pdf
footprint ADI-CP-24-3_N (QFN, 24-Leads, Body 4x4mm, Pitch 0.5mm, Thermal Pad 2.5x2.5mm, IPC Medium Density)
footprint ADI-CP-24-3_L (QFN, 24-Leads, Body 4x4mm, Pitch 0.5mm, Thermal Pad 2.5x2.5mm, IPC High Density)
footprint ADI-CP-24-3_M (QFN, 24-Leads, Body 4x4mm, Pitch 0.5mm, Thermal Pad 2.5x2.5mm, IPC Low Density)
part A pins: 3 IHI (out) "I Channel and Q Channel Mixer Baseband Outputs. These outputs have a 50 Ω differential output impedance (25 Ω per pin). [see datasheet]", 4 ILO (out) "I Channel and Q Channel Mixer Baseband Outputs. These outputs have a 50 Ω differential output impedance (25 Ω per pin).[see datasheet]", 7 ENBL (in) "Enable Control. When pulled low, the part is fully enabled; when pulled high, the part is partially powered down and the output is disabled.", 9 LOIP (in) "Local Oscillator Input. Pins must be ac-coupled. A differential drive through a balun is necessary to achieve optimal performance.[see datasheet]", 10 LOIN (in) "Local Oscillator Input. Pins must be ac-coupled. A differential drive through a balun is necessary to achieve optimal performance.[see datasheet]", 12 NC "Do not connect this pin.", 15 QLO (out) "I Channel and Q Channel Mixer Baseband Outputs. These outputs have a 50 Ω differential output impedance (25 Ω per pin). [see datasheet]", 16 QHI (out) "I Channel and Q Channel Mixer Baseband Outputs. These outputs have a 50 Ω differential output impedance (25 Ω per pin). [see datasheet]", 19 ADJ (in) "A resistor to VS that optimizes third-order intercept. For operation <3 GHz, RADJ = 1.5 kΩ. For operation from 3 GHz to 4 GHz, RADJ = 200 Ω. [see datasheet]", 21 RFIN (in) "RF Input. A single-ended 50 ohm signal can be applied differentially to the RF inputs through a 1:1 balun. Recommended balun is the Mini-Circuits TC1-1-13 for lower frequencies,[see datasheet]", 22 RFIP (in) "RF Input. A single-ended 50 ohm signal can be applied differentially to the RF inputs through a 1:1 balun. [see datasheet]", 25 EP (power) "Exposed Paddle. Connect to a low impedance thermal and electrical ground plane."
part B pins: 1 GND3 (power) "Ground Connect.", 2 GND1 (power) "Ground Connect.", 5 GND1 (power) "Ground Connect.", 6 VCC1 (power) "Supply. Positive supply for LO, IF, biasing, and baseband sections. Decouple these pins to the board ground using the appropriate-sized capacitors.", 8 GND4 (power) "Ground Connect.", 11 GND4 (power) "Ground Connect.", 13 VCC2 (power) "Supply. Positive supply for LO, IF, biasing, and baseband sections. Decouple these pins to the board ground using the appropriate-sized capacitors.", 14 GND2 (power) "Ground Connect.", 17 GND2 (power) "Ground Connect.", 18 GND3 (power) "Ground Connect.", 20 GND3 (power) "Ground Connect.", 23 GND3 (power) "Ground Connect.", 24 VCC3 (power) "Supply. Positive supply for LO, IF, biasing, and baseband sections. Decouple these pins to the board ground using the appropriate-sized capacitors."

## ADL5380ACPZ-WP
designator U?
400 MHz to 6 GHz Quadrature Demodulator, CP-24-3, Pb-Free, 64 Tray; Min RF Frequency (MHz): 400MHz; Max RF Frequency (MHz): 6GHz; IQ Freq (MHz): 390MHz; Phase Error (deg): 0.2Deg; Amplitude Error (dB): 70mdB; IIP3 (+dBm): 22dBm; Output P1dB (dBm): 12; DatasheetVersion: Rev. 0; PackageVersion: Jan-2005; PackageReference: CP-24-3; PackageDescription: 24-Lead Lead Frame Chip Scale Package [LFCSP_VQ]; Code_JEDEC: MO-220-VGGD-8; ComponentLink1Description: Manufacturer URL; ComponentLink1URL: www.analog.com; ComponentLink2Description: Datasheet; ComponentLink2URL: http://www.analog.com/static/imported-files/data_sheets/ADL5380.pdf; ComponentLink3Description: Package Specification; ComponentLink3URL: http://www.analog.com/static/imported-files/packages/56702234806764CP_24_3.pdf
footprint ADI-CP-24-3_N (QFN, 24-Leads, Body 4x4mm, Pitch 0.5mm, Thermal Pad 2.5x2.5mm, IPC Medium Density)
footprint ADI-CP-24-3_L (QFN, 24-Leads, Body 4x4mm, Pitch 0.5mm, Thermal Pad 2.5x2.5mm, IPC High Density)
footprint ADI-CP-24-3_M (QFN, 24-Leads, Body 4x4mm, Pitch 0.5mm, Thermal Pad 2.5x2.5mm, IPC Low Density)
part A pins: 3 IHI (out) "I Channel and Q Channel Mixer Baseband Outputs. These outputs have a 50 Ω differential output impedance (25 Ω per pin). [see datasheet]", 4 ILO (out) "I Channel and Q Channel Mixer Baseband Outputs. These outputs have a 50 Ω differential output impedance (25 Ω per pin).[see datasheet]", 7 ENBL (in) "Enable Control. When pulled low, the part is fully enabled; when pulled high, the part is partially powered down and the output is disabled.", 9 LOIP (in) "Local Oscillator Input. Pins must be ac-coupled. A differential drive through a balun is necessary to achieve optimal performance.[see datasheet]", 10 LOIN (in) "Local Oscillator Input. Pins must be ac-coupled. A differential drive through a balun is necessary to achieve optimal performance.[see datasheet]", 12 NC "Do not connect this pin.", 15 QLO (out) "I Channel and Q Channel Mixer Baseband Outputs. These outputs have a 50 Ω differential output impedance (25 Ω per pin). [see datasheet]", 16 QHI (out) "I Channel and Q Channel Mixer Baseband Outputs. These outputs have a 50 Ω differential output impedance (25 Ω per pin). [see datasheet]", 19 ADJ (in) "A resistor to VS that optimizes third-order intercept. For operation <3 GHz, RADJ = 1.5 kΩ. For operation from 3 GHz to 4 GHz, RADJ = 200 Ω. [see datasheet]", 21 RFIN (in) "RF Input. A single-ended 50 ohm signal can be applied differentially to the RF inputs through a 1:1 balun. Recommended balun is the Mini-Circuits TC1-1-13 for lower frequencies,[see datasheet]", 22 RFIP (in) "RF Input. A single-ended 50 ohm signal can be applied differentially to the RF inputs through a 1:1 balun. [see datasheet]", 25 EP (power) "Exposed Paddle. Connect to a low impedance thermal and electrical ground plane."
part B pins: 1 GND3 (power) "Ground Connect.", 2 GND1 (power) "Ground Connect.", 5 GND1 (power) "Ground Connect.", 6 VCC1 (power) "Supply. Positive supply for LO, IF, biasing, and baseband sections. Decouple these pins to the board ground using the appropriate-sized capacitors.", 8 GND4 (power) "Ground Connect.", 11 GND4 (power) "Ground Connect.", 13 VCC2 (power) "Supply. Positive supply for LO, IF, biasing, and baseband sections. Decouple these pins to the board ground using the appropriate-sized capacitors.", 14 GND2 (power) "Ground Connect.", 17 GND2 (power) "Ground Connect.", 18 GND3 (power) "Ground Connect.", 20 GND3 (power) "Ground Connect.", 23 GND3 (power) "Ground Connect.", 24 VCC3 (power) "Supply. Positive supply for LO, IF, biasing, and baseband sections. Decouple these pins to the board ground using the appropriate-sized capacitors."